# Altium schematic symbol library ICs_Ethernet.SchLib: 7 symbols
Pins are listed as number, name and electrical type; pins without a type are passive.

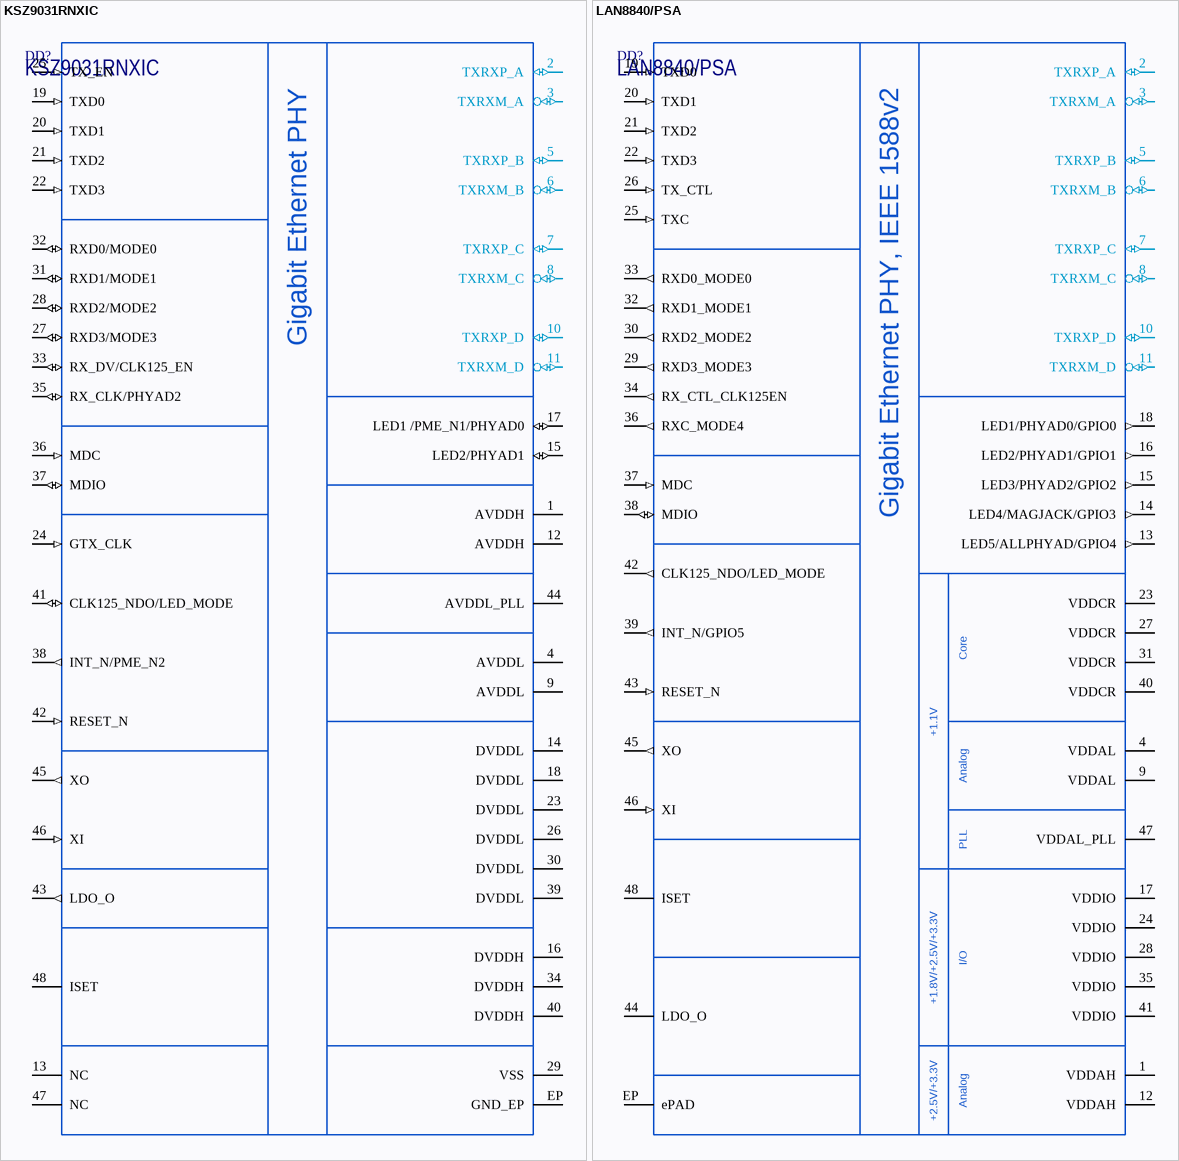
[diagram p0: symbols KSZ9031RNXIC to LAN8840/PSA]

## KSZ9031RNXIC
designator DD?
Gigabit Ethernet Transceiver with RGMII Support; Manufacturer: Microchip; ItemType: IC; ItemSubType: Ethernet PHY; Package: QFN-48; PartNumber: KSZ9031RNXIC; Marking: KSZ9031; Mounting: SMD
footprint QFN48_KSZ9031 (QFN, 48-Leads, Body 7x7mm, Pitch 0.50mm, Thermal Pad 5.10x5.10mm. POD-Land Pattern drawing: QFN77-48LD-PL-1-C)
pins: 1 AVDDH (power), 2 TXRXP_A (io), 3 TXRXM_A (io), 4 AVDDL (power), 5 TXRXP_B (io), 6 TXRXM_B (io), 7 TXRXP_C (io), 8 TXRXM_C (io), 9 AVDDL (power), 10 TXRXP_D (io), 11 TXRXM_D (io), 12 AVDDH (power), 13 NC (hiz), 14 DVDDL (power), 15 LED2/PHYAD1 (io), 16 DVDDH (power), 17 LED1 /PME_N1/PHYAD0 (io), 18 DVDDL (power), 19 TXD0 (in), 20 TXD1 (in), 21 TXD2 (in), 22 TXD3 (in), 23 DVDDL (power), 24 GTX_CLK (in), 25 TX_EN (in), 26 DVDDL (power), 27 RXD3/MODE3 (io), 28 RXD2/MODE2 (io), 29 VSS, 30 DVDDL (power), 31 RXD1/MODE1 (io), 32 RXD0/MODE0 (io), 33 RX_DV/CLK125_EN (io), 34 DVDDH (power), 35 RX_CLK/PHYAD2 (io), 36 MDC (in), 37 MDIO (io), 38 INT_N/PME_N2 (out), 39 DVDDL (power), 40 DVDDH (power), 41 CLK125_NDO/LED_MODE (io), 42 RESET_N (in), 43 LDO_O (out), 44 AVDDL_PLL (power), 45 XO (out), 46 XI (in), 47 NC (hiz), 48 ISET, EP GND_EP
text: Gigabit Ethernet PHY

## LAN8840/PSA
designator DD?
Gigabit Ethernet Transceiver with RGMII and IEEE 1588v2 Support; Manufacturer: Microchip; ItemType: IC; ItemSubType: Ethernet PHY; Package: VQFN-48; PartNumber: LAN8840/PSA; Mounting: SMD
footprint VQFN48_LAN8840 (VQFN, 48-Leads, Body 7x7mm, Pitch 0.50mm, Thermal Pad 5.05x5.05mm.)
pins: 1 VDDAH (power), 2 TXRXP_A (io), 3 TXRXM_A (io), 4 VDDAL (power), 5 TXRXP_B (io), 6 TXRXM_B (io), 7 TXRXP_C (io), 8 TXRXM_C (io), 9 VDDAL (power), 10 TXRXP_D (io), 11 TXRXM_D (io), 12 VDDAH (power), 13 LED5/ALLPHYAD/GPIO4 (out), 14 LED4/MAGJACK/GPIO3 (out), 15 LED3/PHYAD2/GPIO2 (out), 16 LED2/PHYAD1/GPIO1 (out), 17 VDDIO (power), 18 LED1/PHYAD0/GPIO0 (out), 19 TXD0 (in), 20 TXD1 (in), 21 TXD2 (in), 22 TXD3 (in), 23 VDDCR (power), 24 VDDIO (power), 25 TXC (in), 26 TX_CTL (in), 27 VDDCR (power), 28 VDDIO (power), 29 RXD3_MODE3 (out), 30 RXD2_MODE2 (out), 31 VDDCR (power), 32 RXD1_MODE1 (out), 33 RXD0_MODE0 (out), 34 RX_CTL_CLK125EN (out), 35 VDDIO (power), 36 RXC_MODE4 (out), 37 MDC (in), 38 MDIO (io), 39 INT_N/GPIO5 (out), 40 VDDCR (power), 41 VDDIO (power), 42 CLK125_NDO/LED_MODE (out), 43 RESET_N (in), 44 LDO_O (power), 45 XO (out), 46 XI (in), 47 VDDAL_PLL (power), 48 ISET, EP ePAD
text: Gigabit Ethernet PHY, IEEE 1588v2; Core; +1.1V; Analog; PLL; +1.8V/+2.5V/+3.3V; I/O; +2.5V/+3.3V

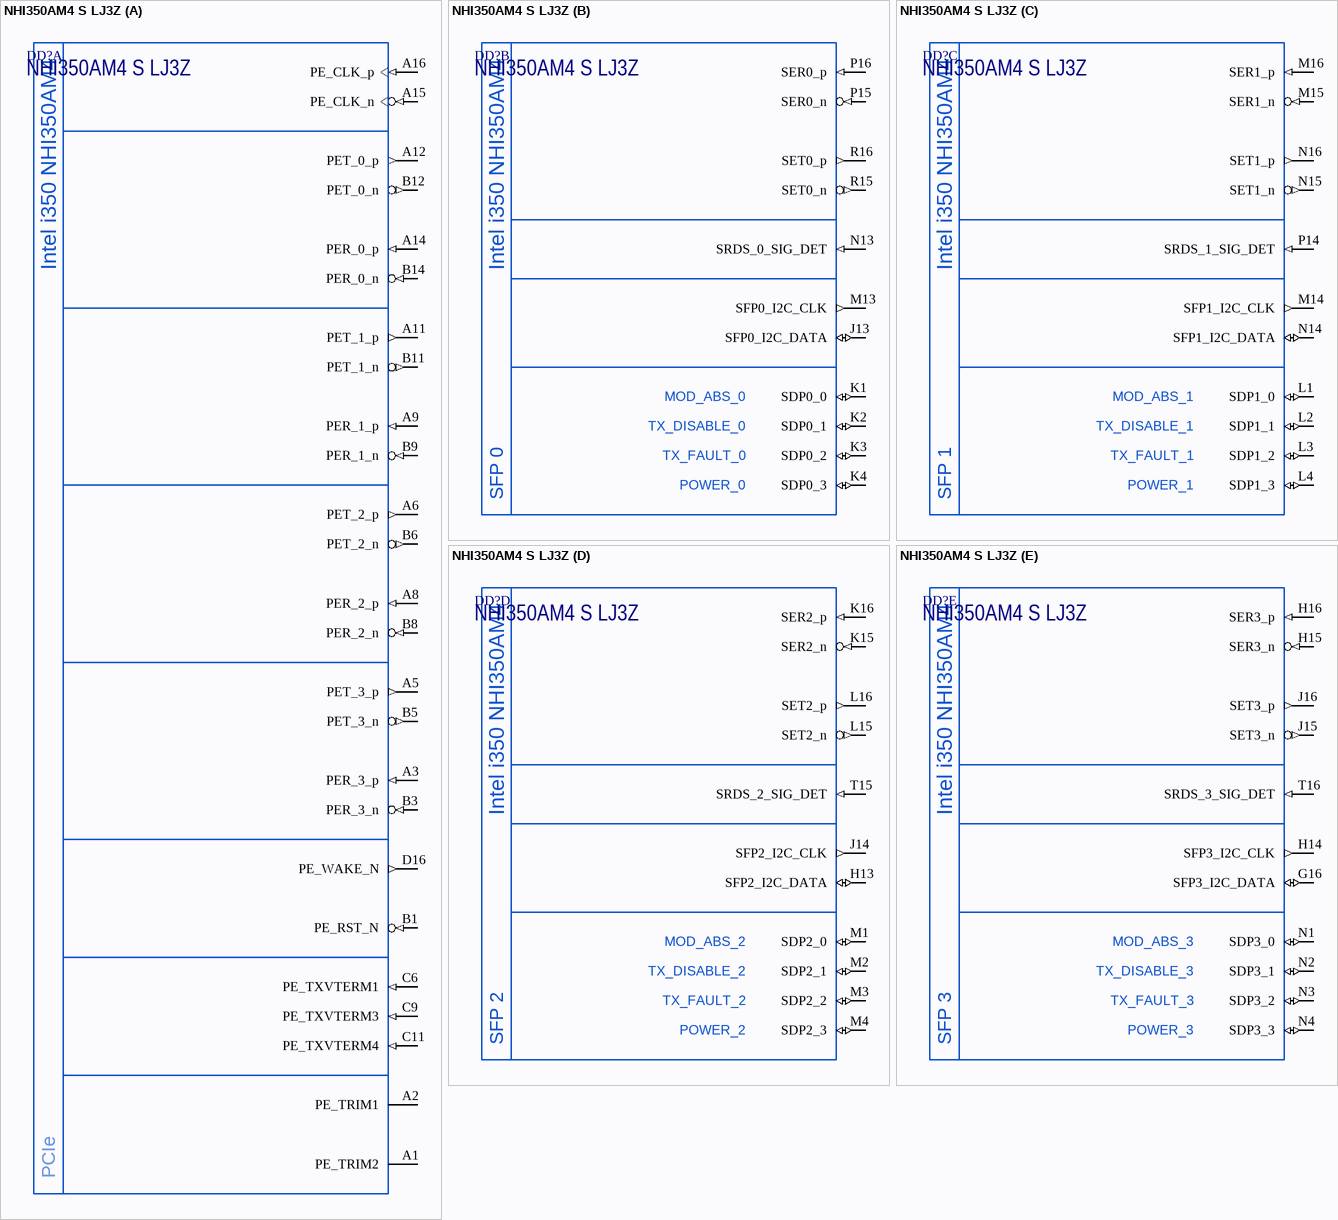
[diagram p1: symbol NHI350AM4 S LJ3Z]

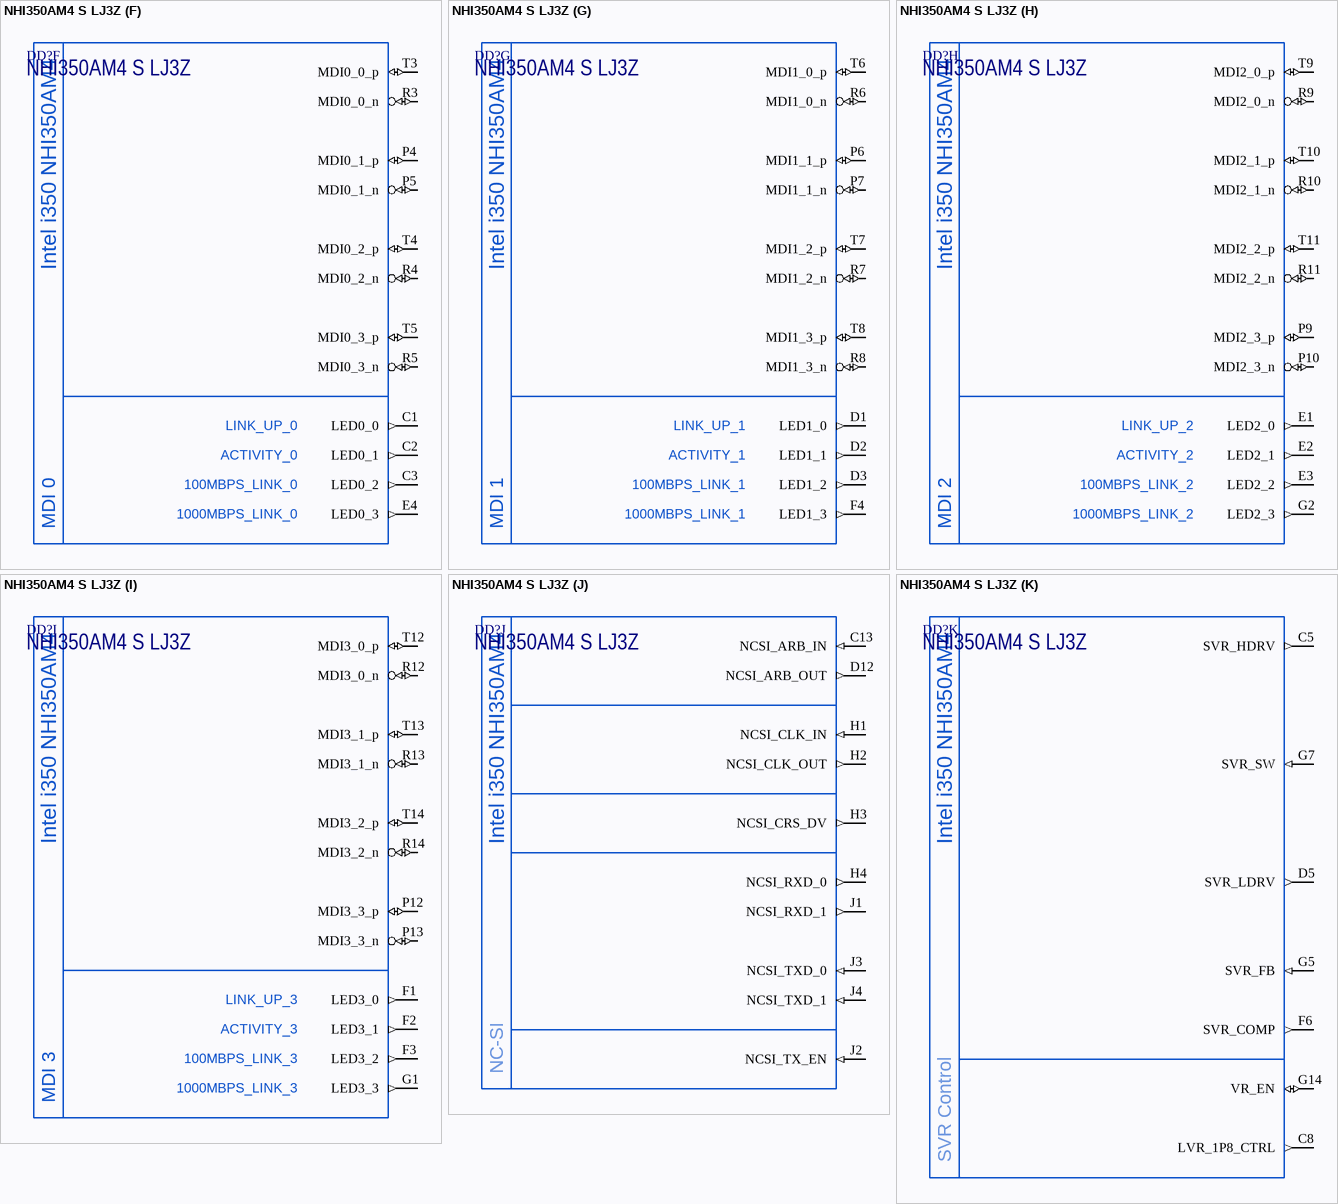
[diagram p2: symbol NHI350AM4 S LJ3Z]

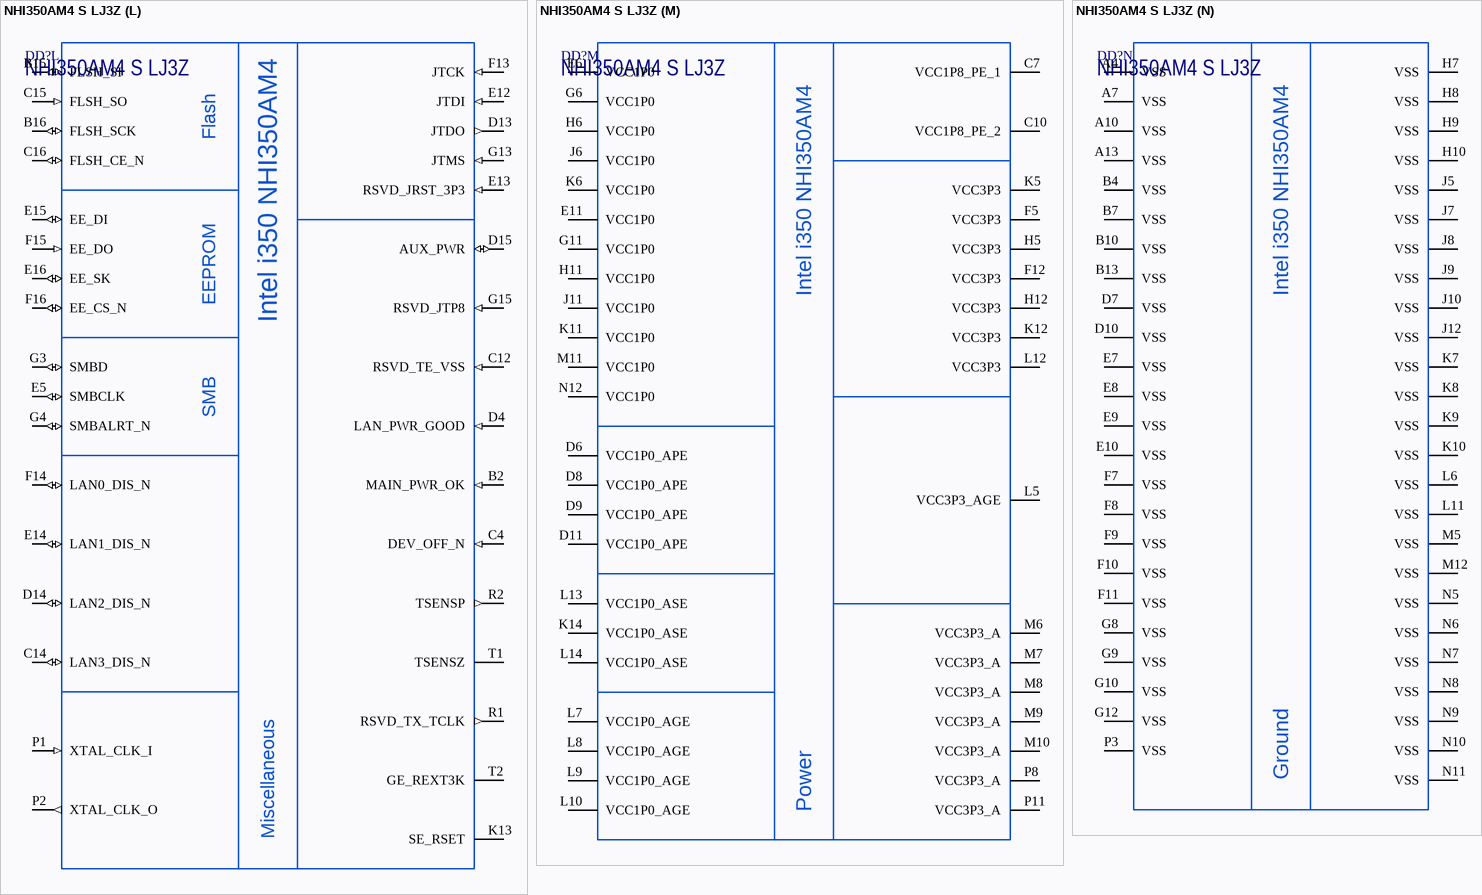
[diagram p3: symbol NHI350AM4 S LJ3Z]

## NHI350AM4 S LJ3Z
designator DD?
10/100/1000M Ethernet Controller with PCI Express Interdace; Manufacturer: Intel; ItemType: IC; ItemSubType: Bridge; Package: PBGA-256; PartNumber: NHI350AM4 S LJ3Z; Marking: NHI350AM4; Mounting: SMD
footprint PBGA256_i350 (BGA, 256-Leads, Body 17,00x17,00mmx2,01mm, Pitch 1,00mm)
part A pins: A1 PE_TRIM2, A2 PE_TRIM1, A3 PER_3_p (in), A5 PET_3_p (out), A6 PET_2_p (out), A8 PER_2_p (in), A9 PER_1_p (in), A11 PET_1_p (out), A12 PET_0_p (out), A14 PER_0_p (in), A15 PE_CLK_n (in), A16 PE_CLK_p (in), B1 PE_RST_N (in), B3 PER_3_n (in), B5 PET_3_n (out), B6 PET_2_n (out), B8 PER_2_n (in), B9 PER_1_n (in), B11 PET_1_n (out), B12 PET_0_n (out), B14 PER_0_n (in), C6 PE_TXVTERM1 (in), C9 PE_TXVTERM3 (in), C11 PE_TXVTERM4 (in), D16 PE_WAKE_N (out)
part B pins: J13 SFP0_I2C_DATA (io), K1 SDP0_0 (io), K2 SDP0_1 (io), K3 SDP0_2 (io), K4 SDP0_3 (io), M13 SFP0_I2C_CLK (out), N13 SRDS_0_SIG_DET (in), P15 SER0_n (in), P16 SER0_p (in), R15 SET0_n (out), R16 SET0_p (out)
part C pins: L1 SDP1_0 (io), L2 SDP1_1 (io), L3 SDP1_2 (io), L4 SDP1_3 (io), M14 SFP1_I2C_CLK (out), M15 SER1_n (in), M16 SER1_p (in), N14 SFP1_I2C_DATA (io), N15 SET1_n (out), N16 SET1_p (out), P14 SRDS_1_SIG_DET (in)
part D pins: H13 SFP2_I2C_DATA (io), J14 SFP2_I2C_CLK (out), K15 SER2_n (in), K16 SER2_p (in), L15 SET2_n (out), L16 SET2_p (out), M1 SDP2_0 (io), M2 SDP2_1 (io), M3 SDP2_2 (io), M4 SDP2_3 (io), T15 SRDS_2_SIG_DET (in)
part E pins: G16 SFP3_I2C_DATA (io), H14 SFP3_I2C_CLK (out), H15 SER3_n (in), H16 SER3_p (in), J15 SET3_n (out), J16 SET3_p (out), N1 SDP3_0 (io), N2 SDP3_1 (io), N3 SDP3_2 (io), N4 SDP3_3 (io), T16 SRDS_3_SIG_DET (in)
part F pins: C1 LED0_0 (out), C2 LED0_1 (out), C3 LED0_2 (out), E4 LED0_3 (out), P4 MDI0_1_p (io), P5 MDI0_1_n (io), R3 MDI0_0_n (io), R4 MDI0_2_n (io), R5 MDI0_3_n (io), T3 MDI0_0_p (io), T4 MDI0_2_p (io), T5 MDI0_3_p (io)
part G pins: D1 LED1_0 (out), D2 LED1_1 (out), D3 LED1_2 (out), F4 LED1_3 (out), P6 MDI1_1_p (io), P7 MDI1_1_n (io), R6 MDI1_0_n (io), R7 MDI1_2_n (io), R8 MDI1_3_n (io), T6 MDI1_0_p (io), T7 MDI1_2_p (io), T8 MDI1_3_p (io)
part H pins: E1 LED2_0 (out), E2 LED2_1 (out), E3 LED2_2 (out), G2 LED2_3 (out), P9 MDI2_3_p (io), P10 MDI2_3_n (io), R9 MDI2_0_n (io), R10 MDI2_1_n (io), R11 MDI2_2_n (io), T9 MDI2_0_p (io), T10 MDI2_1_p (io), T11 MDI2_2_p (io)
part I pins: F1 LED3_0 (out), F2 LED3_1 (out), F3 LED3_2 (out), G1 LED3_3 (out), P12 MDI3_3_p (io), P13 MDI3_3_n (io), R12 MDI3_0_n (io), R13 MDI3_1_n (io), R14 MDI3_2_n (io), T12 MDI3_0_p (io), T13 MDI3_1_p (io), T14 MDI3_2_p (io)
part J pins: C13 NCSI_ARB_IN (in), D12 NCSI_ARB_OUT (out), H1 NCSI_CLK_IN (in), H2 NCSI_CLK_OUT (out), H3 NCSI_CRS_DV (out), H4 NCSI_RXD_0 (out), J1 NCSI_RXD_1 (out), J2 NCSI_TX_EN (in), J3 NCSI_TXD_0 (in), J4 NCSI_TXD_1 (in)
part K pins: C5 SVR_HDRV (out), C8 LVR_1P8_CTRL (out), D5 SVR_LDRV (out), F6 SVR_COMP (out), G5 SVR_FB (in), G7 SVR_SW (in), G14 VR_EN (io)
part L pins: B2 MAIN_PWR_OK (in), B15 FLSH_SI (io), B16 FLSH_SCK (io), C4 DEV_OFF_N (in), C12 RSVD_TE_VSS (in), C14 LAN3_DIS_N (io), C15 FLSH_SO (in), C16 FLSH_CE_N (io), D4 LAN_PWR_GOOD (in), D13 JTDO (out), D14 LAN2_DIS_N (io), D15 AUX_PWR (io), E5 SMBCLK (io), E12 JTDI (in), E13 RSVD_JRST_3P3 (in), E14 LAN1_DIS_N (io), E15 EE_DI (io), E16 EE_SK (io), F13 JTCK (in), F14 LAN0_DIS_N (io), F15 EE_DO (in), F16 EE_CS_N (io), G3 SMBD (io), G4 SMBALRT_N (io), G13 JTMS (in), G15 RSVD_JTP8 (in), K13 SE_RSET, P1 XTAL_CLK_I (in), P2 XTAL_CLK_O (out), R1 RSVD_TX_TCLK (out), R2 TSENSP (out), T1 TSENSZ (power), T2 GE_REXT3K
part M pins: C7 VCC1P8_PE_1 (power), C10 VCC1P8_PE_2 (power), D6 VCC1P0_APE (power), D8 VCC1P0_APE (power), D9 VCC1P0_APE (power), D11 VCC1P0_APE (power), E6 VCC1P0 (power), E11 VCC1P0 (power), F5 VCC3P3 (power), F12 VCC3P3 (power), G6 VCC1P0 (power), G11 VCC1P0 (power), H5 VCC3P3 (power), H6 VCC1P0 (power), H11 VCC1P0 (power), H12 VCC3P3 (power), J6 VCC1P0 (power), J11 VCC1P0 (power), K5 VCC3P3 (power), K6 VCC1P0 (power), K11 VCC1P0 (power), K12 VCC3P3 (power), K14 VCC1P0_ASE (power), L5 VCC3P3_AGE (power), L7 VCC1P0_AGE (power), L8 VCC1P0_AGE (power), L9 VCC1P0_AGE (power), L10 VCC1P0_AGE (power), L12 VCC3P3 (power), L13 VCC1P0_ASE (power), L14 VCC1P0_ASE (power), M6 VCC3P3_A (power), M7 VCC3P3_A (power), M8 VCC3P3_A (power), M9 VCC3P3_A (power), M10 VCC3P3_A (power), M11 VCC1P0 (power), N12 VCC1P0 (power), P8 VCC3P3_A (power), P11 VCC3P3_A (power)
part N pins: A4 VSS (power), A7 VSS (power), A10 VSS (power), A13 VSS (power), B4 VSS (power), B7 VSS (power), B10 VSS (power), B13 VSS (power), D7 VSS (power), D10 VSS (power), E7 VSS (power), E8 VSS (power), E9 VSS (power), E10 VSS (power), F7 VSS (power), F8 VSS (power), F9 VSS (power), F10 VSS (power), F11 VSS (power), G8 VSS (power), G9 VSS (power), G10 VSS (power), G12 VSS (power), H7 VSS (power), H8 VSS (power), H9 VSS (power), H10 VSS (power), J5 VSS (power), J7 VSS (power), J8 VSS (power), J9 VSS (power), J10 VSS (power), J12 VSS (power), K7 VSS (power), K8 VSS (power), K9 VSS (power), K10 VSS (power), L6 VSS (power), L11 VSS (power), M5 VSS (power), M12 VSS (power), N5 VSS (power), N6 VSS (power), N7 VSS (power), N8 VSS (power), N9 VSS (power), N10 VSS (power), N11 VSS (power), P3 VSS (power)
part A text: Intel i350 NHI350AM4; PCIe
part B text: Intel i350 NHI350AM4; MOD_ABS_0; TX_DISABLE_0; TX_FAULT_0; POWER_0; SFP 0
part C text: Intel i350 NHI350AM4; MOD_ABS_1; TX_DISABLE_1; TX_FAULT_1; POWER_1; SFP 1
part D text: Intel i350 NHI350AM4; MOD_ABS_2; TX_DISABLE_2; TX_FAULT_2; POWER_2; SFP 2
part E text: Intel i350 NHI350AM4; MOD_ABS_3; TX_DISABLE_3; TX_FAULT_3; POWER_3; SFP 3
part F text: Intel i350 NHI350AM4; LINK_UP_0; ACTIVITY_0; 100MBPS_LINK_0; 1000MBPS_LINK_0; MDI 0
part G text: Intel i350 NHI350AM4; LINK_UP_1; ACTIVITY_1; 100MBPS_LINK_1; 1000MBPS_LINK_1; MDI 1
part H text: Intel i350 NHI350AM4; LINK_UP_2; ACTIVITY_2; 100MBPS_LINK_2; 1000MBPS_LINK_2; MDI 2
part I text: Intel i350 NHI350AM4; LINK_UP_3; ACTIVITY_3; 100MBPS_LINK_3; 1000MBPS_LINK_3; MDI 3
part J text: Intel i350 NHI350AM4; NC-SI
part K text: Intel i350 NHI350AM4; SVR Control
part L text: Intel i350 NHI350AM4; Flash; EEPROM; SMB; Miscellaneous
part M text: Intel i350 NHI350AM4; Power
part N text: Intel i350 NHI350AM4; Ground

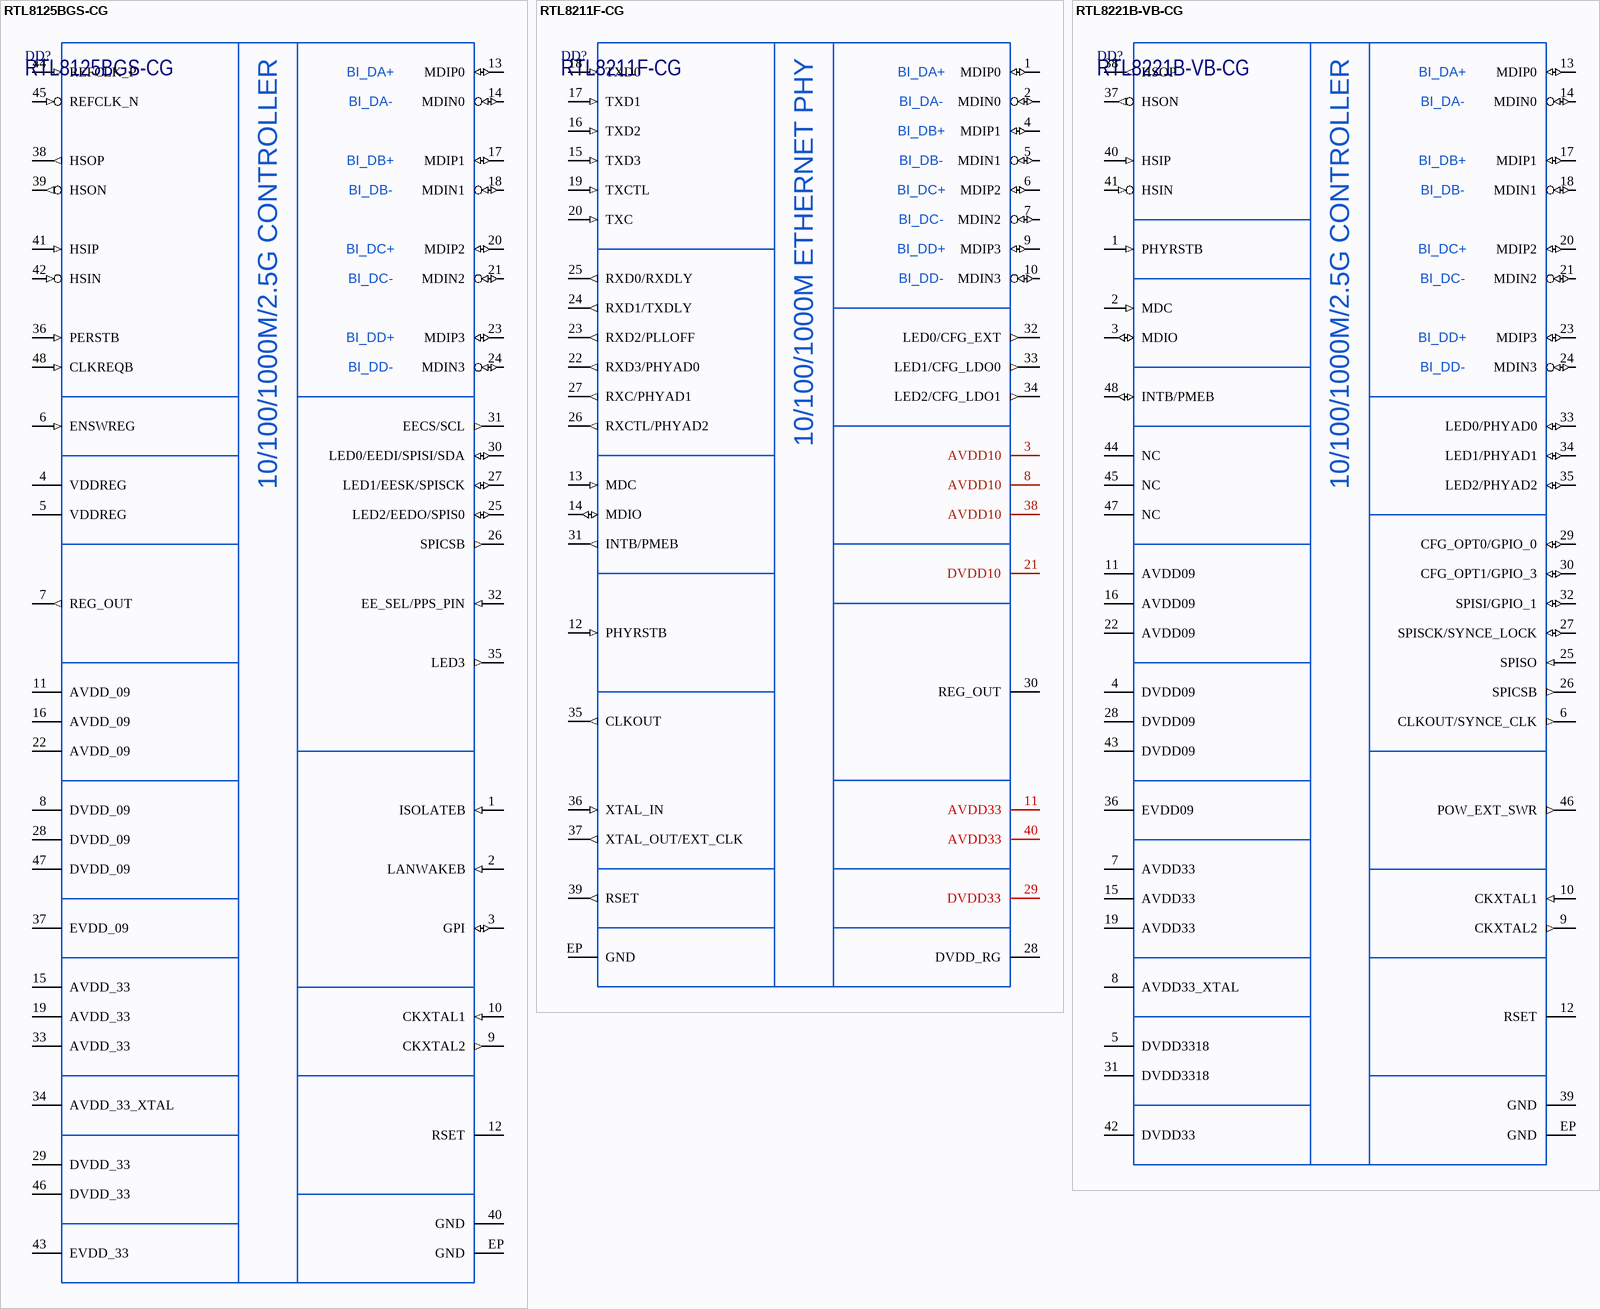
[diagram p4: symbols RTL8125BGS-CG to RTL8221B-VB-CG]

## RTL8125BGS-CG
designator DD?
Integrated 10/100/1000M/2.5G Ethernet Controller for PCI Express Applications; Manufacturer: Realtek; ItemType: IC; Package: QFN-48; PartNumber: RTL8125BGS-CG; ItemSubType: Ethernet Controller; Mounting: SMD
footprint QFN48_REALTEK (QFN, 48-Leads, Body 6x6mm, Pitch 0.40mm, Thermal Pad 4.30x4.30mm. POD-Land Pattern drawing: QFN77-48LD-PL-1-C)
pins: 1 ISOLATEB (in), 2 LANWAKEB (in), 3 GPI (io), 4 VDDREG (power), 5 VDDREG (power), 6 ENSWREG (in), 7 REG_OUT (out), 8 DVDD_09 (power), 9 CKXTAL2 (out), 10 CKXTAL1 (in), 11 AVDD_09 (power), 12 RSET, 13 MDIP0 (io), 14 MDIN0 (io), 15 AVDD_33 (power), 16 AVDD_09 (power), 17 MDIP1 (io), 18 MDIN1 (io), 19 AVDD_33 (power), 20 MDIP2 (io), 21 MDIN2 (io), 22 AVDD_09 (power), 23 MDIP3 (io), 24 MDIN3 (io), 25 LED2/EEDO/SPIS0 (io), 26 SPICSB (out), 27 LED1/EESK/SPISCK (io), 28 DVDD_09 (power), 29 DVDD_33 (power), 30 LED0/EEDI/SPISI/SDA (io), 31 EECS/SCL (out), 32 EE_SEL/PPS_PIN (in), 33 AVDD_33 (power), 34 AVDD_33_XTAL (power), 35 LED3 (out), 36 PERSTB (in), 37 EVDD_09 (power), 38 HSOP (out), 39 HSON (out), 40 GND, 41 HSIP (in), 42 HSIN (in), 43 EVDD_33 (power), 44 REFCLK_P (in), 45 REFCLK_N (in), 46 DVDD_33 (power), 47 DVDD_09 (power), 48 CLKREQB (in), EP GND
text: 10/100/1000M/2.5G CONTROLLER; BI_DA+; BI_DA-; BI_DB+; BI_DB-; BI_DC+; BI_DC-; BI_DD+; BI_DD-

## RTL8211F-CG
designator DD?
Integrated 10/100/1000M Ethernet precision transceiver; Manufacturer: Realtek; ItemType: IC; ItemSubType: Ethernet PHY; Package: QFN-40; PartNumber: RTL8211F-CG; Marking: RTL8211F; Mounting: SMD
footprint QFN40_REALTEK
pins: 1 MDIP0 (io), 2 MDIN0 (io), 3 AVDD10 (power), 4 MDIP1 (io), 5 MDIN1 (io), 6 MDIP2 (io), 7 MDIN2 (io), 8 AVDD10 (power), 9 MDIP3 (io), 10 MDIN3 (io), 11 AVDD33 (power), 12 PHYRSTB (in), 13 MDC (in), 14 MDIO (io), 15 TXD3 (in), 16 TXD2 (in), 17 TXD1 (in), 18 TXD0 (in), 19 TXCTL (in), 20 TXC (in), 21 DVDD10 (power), 22 RXD3/PHYAD0 (out), 23 RXD2/PLLOFF (out), 24 RXD1/TXDLY (out), 25 RXD0/RXDLY (out), 26 RXCTL/PHYAD2 (out), 27 RXC/PHYAD1 (out), 28 DVDD_RG (power), 29 DVDD33 (power), 30 REG_OUT (power), 31 INTB/PMEB (out), 32 LED0/CFG_EXT (out), 33 LED1/CFG_LDO0 (out), 34 LED2/CFG_LDO1 (out), 35 CLKOUT (out), 36 XTAL_IN (in), 37 XTAL_OUT/EXT_CLK (out), 38 AVDD10 (power), 39 RSET (out), 40 AVDD33 (power), EP GND
text: 10/100/1000M ETHERNET PHY; BI_DA+; BI_DA-; BI_DB+; BI_DB-; BI_DC+; BI_DC-; BI_DD+; BI_DD-

## RTL8221B-VB-CG
designator DD?
Integrated 10/100/1000M/2.5G Ethernet Controller; Manufacturer: Realtek; ItemType: IC; Package: QFN-48; PartNumber: RTL8221B-VB-CG; ItemSubType: Ethernet Controller; Mounting: SMD
footprint QFN48_REALTEK (QFN, 48-Leads, Body 6x6mm, Pitch 0.40mm, Thermal Pad 4.30x4.30mm. POD-Land Pattern drawing: QFN77-48LD-PL-1-C)
pins: 1 PHYRSTB (in), 2 MDC (in), 3 MDIO (io), 4 DVDD09 (power), 5 DVDD3318 (power), 6 CLKOUT/SYNCE_CLK (out), 7 AVDD33 (power), 8 AVDD33_XTAL (power), 9 CKXTAL2 (out), 10 CKXTAL1 (in), 11 AVDD09 (power), 12 RSET, 13 MDIP0 (io), 14 MDIN0 (io), 15 AVDD33 (power), 16 AVDD09 (power), 17 MDIP1 (io), 18 MDIN1 (io), 19 AVDD33 (power), 20 MDIP2 (io), 21 MDIN2 (io), 22 AVDD09 (power), 23 MDIP3 (io), 24 MDIN3 (io), 25 SPISO (in), 26 SPICSB (out), 27 SPISCK/SYNCE_LOCK (io), 28 DVDD09 (power), 29 CFG_OPT0/GPIO_0 (io), 30 CFG_OPT1/GPIO_3 (io), 31 DVDD3318 (power), 32 SPISI/GPIO_1 (io), 33 LED0/PHYAD0 (io), 34 LED1/PHYAD1 (io), 35 LED2/PHYAD2 (io), 36 EVDD09 (power), 37 HSON (out), 38 HSOP (out), 39 GND, 40 HSIP (in), 41 HSIN (in), 42 DVDD33 (power), 43 DVDD09 (power), 44 NC (hiz), 45 NC (hiz), 46 POW_EXT_SWR (out), 47 NC (hiz), 48 INTB/PMEB (io), EP GND
text: 10/100/1000M/2.5G CONTROLLER; BI_DA+; BI_DA-; BI_DB+; BI_DB-; BI_DC+; BI_DC-; BI_DD+; BI_DD-

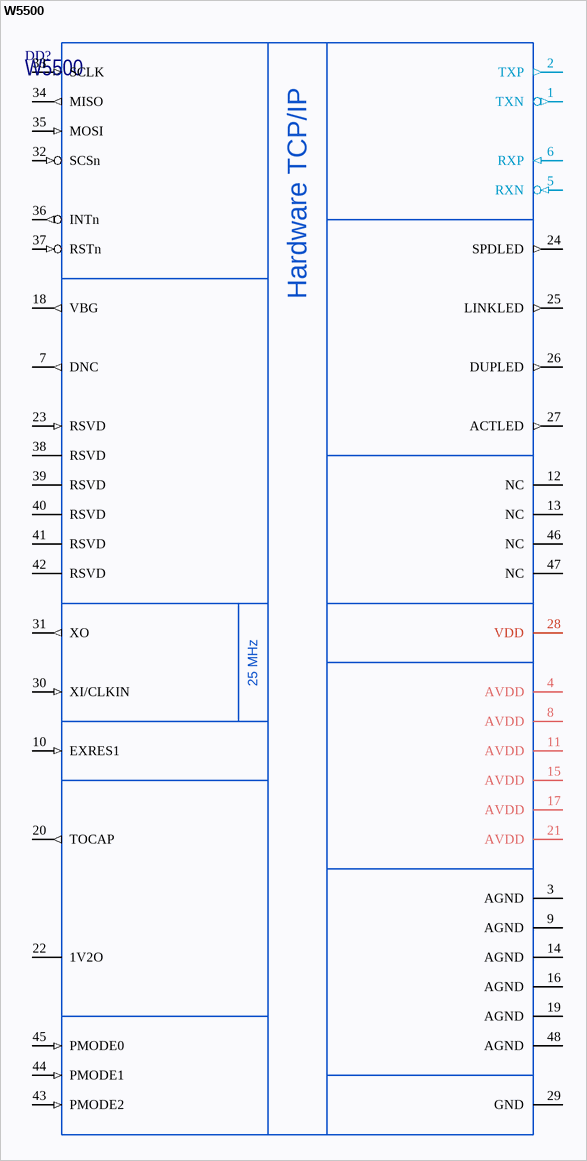
[diagram p5: symbol W5500]

## W5500
designator DD?
Hardwired TCP/IP embedded Ethernet controller; Manufacturer: Wiznet; ItemType: IC; Package: LQFP-48; PartNumber: W5500; ItemSubType: Ethernet Controller; Mounting: SMD
footprint LQFP48_WIZNET (LQFP, 48-Leads, Body 7,00x7,00mm, Pitch 0,50mm)
pins: 1 TXN (out), 2 TXP (out), 3 AGND, 4 AVDD (power), 5 RXN (in), 6 RXP (in), 7 DNC (out), 8 AVDD (power), 9 AGND, 10 EXRES1 (in), 11 AVDD (power), 12 NC (hiz), 13 NC (hiz), 14 AGND, 15 AVDD (power), 16 AGND, 17 AVDD (power), 18 VBG (out), 19 AGND, 20 TOCAP (out), 21 AVDD (power), 22 1V2O (power), 23 RSVD (in), 24 SPDLED (out), 25 LINKLED (out), 26 DUPLED (out), 27 ACTLED (out), 28 VDD (power), 29 GND, 30 XI/CLKIN (in), 31 XO (out), 32 SCSn (in), 33 SCLK (in), 34 MISO (out), 35 MOSI (in), 36 INTn (out), 37 RSTn (in), 38 RSVD (hiz), 39 RSVD (hiz), 40 RSVD (hiz), 41 RSVD (hiz), 42 RSVD (hiz), 43 PMODE2 (in), 44 PMODE1 (in), 45 PMODE0 (in), 46 NC (hiz), 47 NC (hiz), 48 AGND
text: Hardware TCP/IP; 25 MHz